# EAGLE library part LPC1224/25-LQFP48 (library LPC122x_LQFP48)
NXP Semiconductors LPC1224/25 microcontrollers <http://www.nxp.com/products/microcontrollers/cortex_m0/lpc1200/> ARM 32-bit Cortex-M0 Microcontroller with MPU CPU clock up to 50MHz up to 80 KByte on-chip Flash ROM with In-System Programming (ISP) and In-Application Programming (IAP) via On-Chip Bootloader 4 to 8 KByte SRAM Nested Vectored Interrupt Controller SPI controllers Micro-DMA controller with 21 channels CRC-Engine UART with full Modem Interface and RS485 Support Fast Mode I2C-Bus 4 Timers with 4 capture channels and 12 output channels Watchdog (WDT) Sytem tick timer Real-Time Clock (RTC) 10-bit ADC with 8 channels Analog Comparators with 555-like output Power Management Unit (PMU) Brownout detection 12MHz internal RC oscillator Serial Wire Debug/Trace port
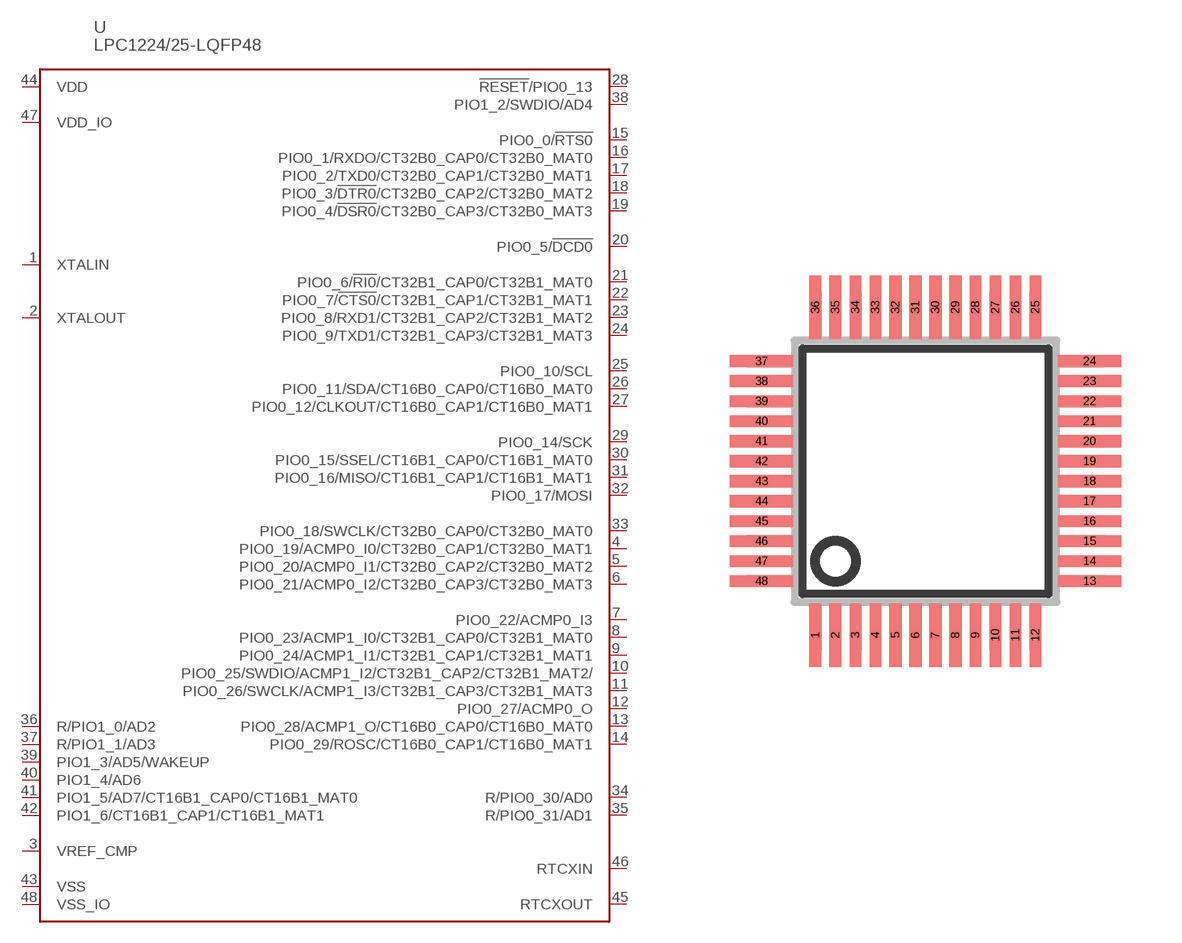
[diagram p0: symbol with the pads of LQFP48; footprint LQFP48]

Designator prefix -

## LPC1224/25-LQFP48  [LQFP48]
1  XTALIN  pas
2  XTALOUT  pas
3  VREF_CMP
4  PIO0_19/ACMP0_I0/CT32B0_CAP1/CT32B0_MAT1
5  PIO0_20/ACMP0_I1/CT32B0_CAP2/CT32B0_MAT2
6  PIO0_21/ACMP0_I2/CT32B0_CAP3/CT32B0_MAT3
7  PIO0_22/ACMP0_I3
8  PIO0_23/ACMP1_I0/CT32B1_CAP0/CT32B1_MAT0
9  PIO0_24/ACMP1_I1/CT32B1_CAP1/CT32B1_MAT1
10  PIO0_25/SWDIO/ACMP1_I2/CT32B1_CAP2/CT32B1_MAT2/
11  PIO0_26/SWCLK/ACMP1_I3/CT32B1_CAP3/CT32B1_MAT3
12  PIO0_27/ACMP0_O
13  PIO0_28/ACMP1_O/CT16B0_CAP0/CT16B0_MAT0
14  PIO0_29/ROSC/CT16B0_CAP1/CT16B0_MAT1
15  PIO0_0/!RTS0!
16  PIO0_1/RXDO/CT32B0_CAP0/CT32B0_MAT0
17  PIO0_2/TXD0/CT32B0_CAP1/CT32B0_MAT1
18  PIO0_3/!DTR0!/CT32B0_CAP2/CT32B0_MAT2
19  PIO0_4/!DSR0!/CT32B0_CAP3/CT32B0_MAT3
20  PIO0_5/!DCD0!
21  PIO0_6/!RI0!/CT32B1_CAP0/CT32B1_MAT0
22  PIO0_7/!CTS0!/CT32B1_CAP1/CT32B1_MAT1
23  PIO0_8/RXD1/CT32B1_CAP2/CT32B1_MAT2
24  PIO0_9/TXD1/CT32B1_CAP3/CT32B1_MAT3
25  PIO0_10/SCL
26  PIO0_11/SDA/CT16B0_CAP0/CT16B0_MAT0
27  PIO0_12/CLKOUT/CT16B0_CAP1/CT16B0_MAT1
28  !RESET!/PIO0_13
29  PIO0_14/SCK
30  PIO0_15/SSEL/CT16B1_CAP0/CT16B1_MAT0
31  PIO0_16/MISO/CT16B1_CAP1/CT16B1_MAT1
32  PIO0_17/MOSI
33  PIO0_18/SWCLK/CT32B0_CAP0/CT32B0_MAT0
34  R/PIO0_30/AD0
35  R/PIO0_31/AD1
36  R/PIO1_0/AD2
37  R/PIO1_1/AD3
38  PIO1_2/SWDIO/AD4
39  PIO1_3/AD5/WAKEUP
40  PIO1_4/AD6
41  PIO1_5/AD7/CT16B1_CAP0/CT16B1_MAT0
42  PIO1_6/CT16B1_CAP1/CT16B1_MAT1
43  VSS  pwr
44  VDD  pwr
45  RTCXOUT
46  RTCXIN
47  VDD_IO  pwr
48  VSS_IO  pwr

## Footprint LQFP48 (pad centres in mm)
LQFP-48 (SOT313-2) 7x7x1.4mm Data Sheet <http://www.nxp.com/documents/outline_drawing/sot313-2_po.pdf> Plastic Low Profile Quad Flat Package
smd 0.3 x 1.6: 1 -2.75,-4.1; 2 -2.25,-4.1; 3 -1.75,-4.1; 4 -1.25,-4.1; 5 -0.75,-4.1; 6 -0.25,-4.1; 7 0.25,-4.1; 8 0.75,-4.1; 9 1.25,-4.1; 10 1.75,-4.1; 11 2.25,-4.1; 12 2.75,-4.1; 25 2.75,4.1; 26 2.25,4.1; 27 1.75,4.1; 28 1.25,4.1; 29 0.75,4.1; 30 0.25,4.1; 31 -0.25,4.1; 32 -0.75,4.1; 33 -1.25,4.1; 34 -1.75,4.1; 35 -2.25,4.1; 36 -2.75,4.1
smd 1.6 x 0.3: 13 4.1,-2.75; 14 4.1,-2.25; 15 4.1,-1.75; 16 4.1,-1.25; 17 4.1,-0.75; 18 4.1,-0.25; 19 4.1,0.25; 20 4.1,0.75; 21 4.1,1.25; 22 4.1,1.75; 23 4.1,2.25; 24 4.1,2.75; 37 -4.1,2.75; 38 -4.1,2.25; 39 -4.1,1.75; 40 -4.1,1.25; 41 -4.1,0.75; 42 -4.1,0.25; 43 -4.1,-0.25; 44 -4.1,-0.75; 45 -4.1,-1.25; 46 -4.1,-1.75; 47 -4.1,-2.25; 48 -4.1,-2.75